# Altium footprint library MF_MiscLib.PcbLib: 108 footprints (part 2 of 7)
Each footprint in its own frame and in the unit in brackets; x right, y up, seen from the top. Pads: shape width x height; smd on the part's side, far side on the other; paste and mask are expansions set on the pad; w line width, h text height; cw(c..) or ccw(c..) is an arc to the next point about the centre after c.
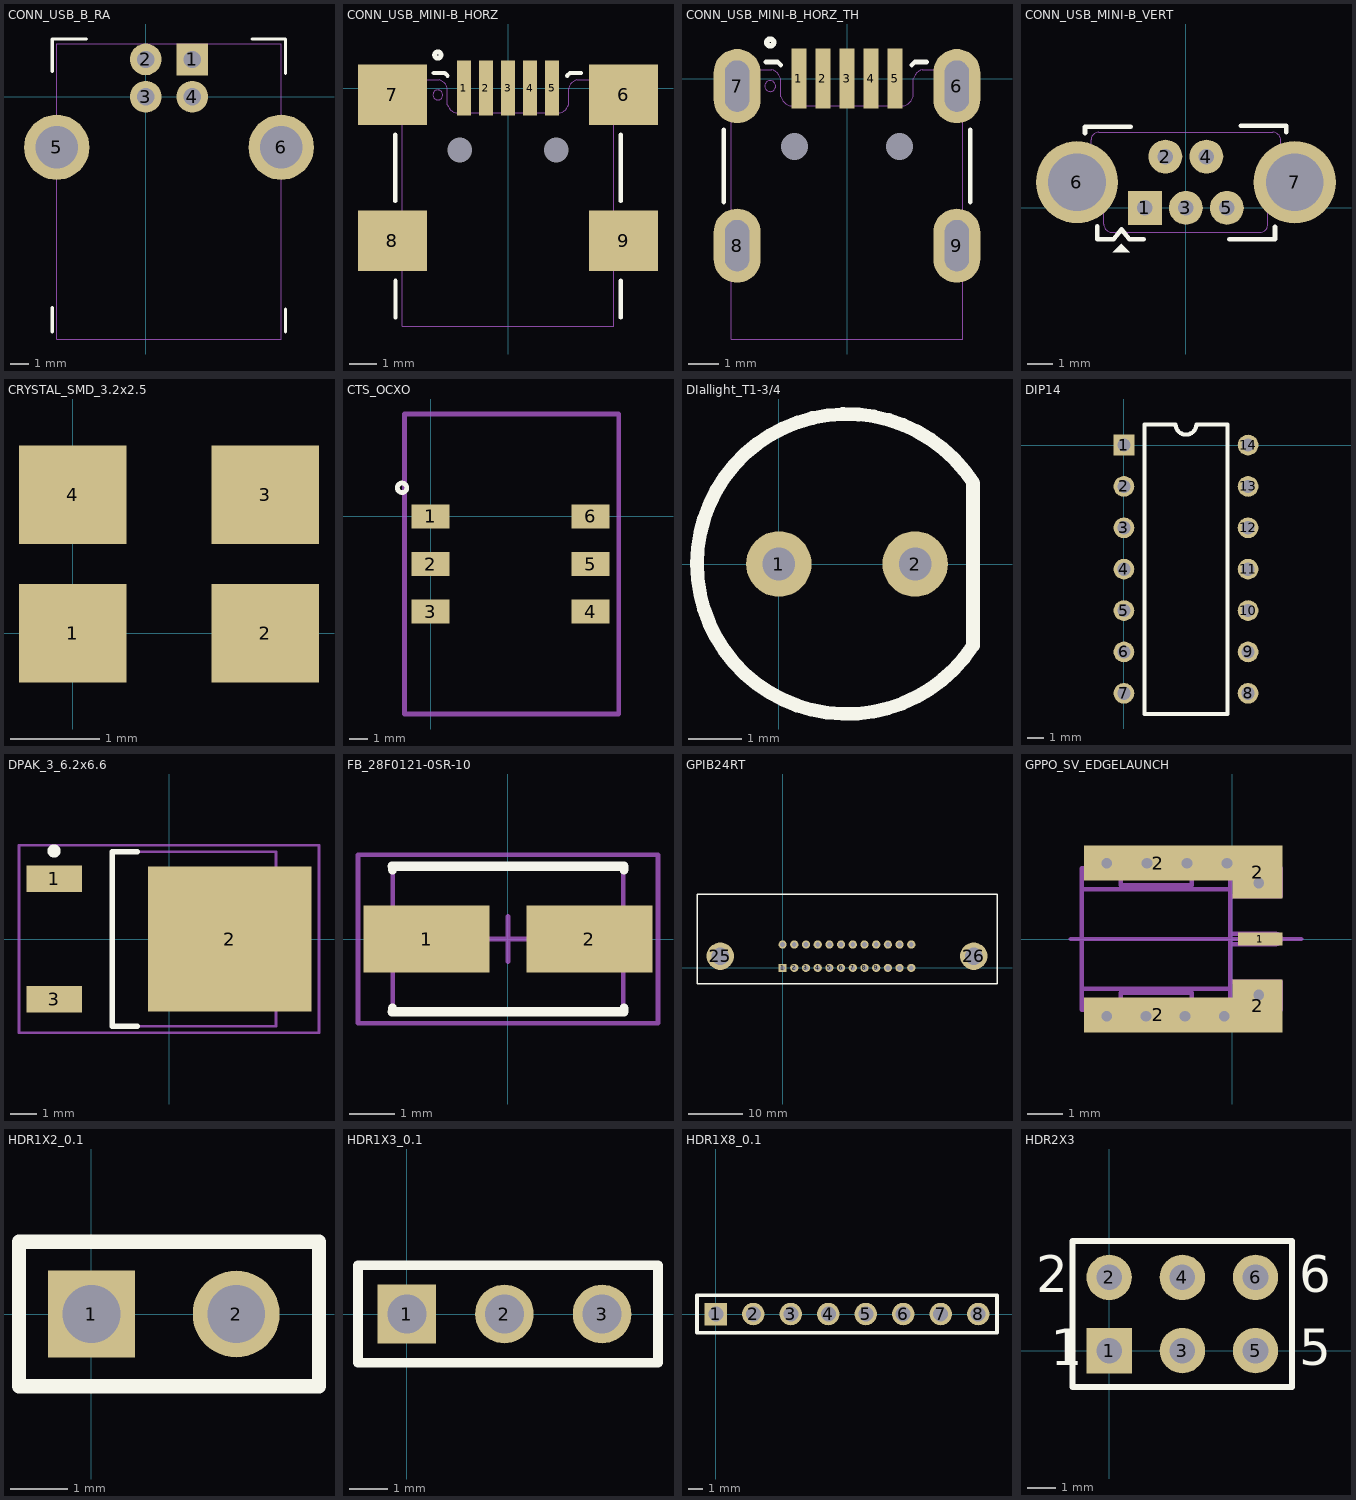
[diagram p1: the footprints below, top view; thin cyan lines are the x and y axes]

## CONN_USB_B_RA [mm]
pads (6):
  rect 1.7x1.7 / inner round 1.7 / far side rect 1.7x1.7 hole 0.92: 1(2.5,2)
  round 1.7 hole 0.92: 2(0,2) 3(0,0) 4(2.5,0)
  round 3.5 hole 2.3: 5(-4.77,-2.71) 6(7.27,-2.71)
Top Overlay:
  lines w0.178: -5.004,-12.598 -5.004,-11.321 ; -5.004,1.37 -5.004,3.097 -3.175,3.097 ; 5.715,3.097 7.493,3.097 7.493,1.243 ; 7.498,-12.598 7.498,-11.38
Mechanical 15:
  lines w0.025: -4.77,-12.99 -4.77,2.85 7.27,2.85 7.27,-12.99 -4.77,-12.99

## CONN_USB_MINI-B_HORZ [mm]
pads (11):
  rect 0.5x2 smd: 1(-1.6,0) 2(-0.8,0) 3(0,0) 4(0.8,0) 5(1.6,0)
  rect 2.5x2.2 smd: 6(4.2,-0.25) 7(-4.2,-0.25) 8(-4.2,-5.55) 9(4.2,-5.55)
  round 0 hole 0.9 unplated: 10(1.75,-2.25) 11(-1.75,-2.25)
Top Overlay:
  circle w0.178: c-2.55,1.2 r0.114
  lines w0.152: -4.1,-4.1 -4.1,-1.694 ; -4.089,-8.331 -4.089,-7 ; -2.7,0.55 -2.3,0.55 -2.2,0.45 ; 2.15,0.45 2.25,0.55 2.65,0.55 ; 4.1,-8.331 4.1,-7 ; 4.1,-4.1 4.1,-1.694
Mechanical 15:
  circle w0.025: c-2.55,-0.25 r0.18
  lines w0.025: 4.4,-5.35 ccw(c4.492,-5.575) 4.4,-5.8 4.6,-5.8 cw(c4.575,-6) 4.6,-6.2 3.85,-6.2 3.85,-8.65 -3.85,-8.65 -3.85,-6.2 -4.6,-6.2 cw(c-4.6,-6) -4.6,-5.8 -4.4,-5.8 ccw(c-4.4,-5.575) -4.4,-5.35 -4.6,-5.35 cw(c-4.6,-5.15) -4.6,-4.95 -3.85,-4.95 -3.85,-0.9 -4.6,-0.9 cw(c-4.6,-0.7) -4.6,-0.5 -4.5,-0.5 ccw(c-4.5,-0.3) -4.5,-0.1 -4.6,-0.1 cw(c-4.6,0.1) -4.6,0.3 -2.5,0.3 cw(c-2.65,-0.15) -2.2,0 -2.2,-0.6 ccw(c-1.787,-0.487) -1.9,-0.9 1.9,-0.9 ccw(c1.787,-0.487) 2.2,-0.6 2.2,0 cw(c2.651,-0.151) 2.5,0.3 4.6,0.3 cw(c4.6,0.1) 4.6,-0.1 4.5,-0.1 ccw(c4.5,-0.3) 4.5,-0.5 4.6,-0.5 cw(c4.6,-0.7) 4.6,-0.9 3.85,-0.9 3.85,-4.9 4.6,-4.9 cw(c4.558,-5.125) 4.6,-5.35 4.4,-5.35

## CONN_USB_MINI-B_HORZ_TH [mm]
pads (11):
  rect 0.5x2 smd: 1(-1.6,0) 2(-0.8,0) 3(0,0) 4(0.8,0) 5(1.6,0)
  oval 1.562x2.462 hole 0.8 slot 1.7 at 90 deg: 6(3.65,-0.25) 7(-3.65,-0.25) 8(-3.65,-5.55) 9(3.65,-5.55)
  round 0 hole 0.9 unplated: 10(1.75,-2.25) 11(-1.75,-2.25)
Top Overlay:
  circle w0.178: c-2.55,1.2 r0.114
  lines w0.152: -4.1,-4.1 -4.1,-1.694 ; -2.7,0.55 -2.3,0.55 -2.2,0.45 ; 2.15,0.45 2.25,0.55 2.65,0.55 ; 4.1,-4.1 4.1,-1.694
Mechanical 15:
  circle w0.025: c-2.55,-0.25 r0.18
  lines w0.025: -3.85,-8.65 -3.85,0.292 -2.5,0.3 cw(c-2.65,-0.15) -2.2,0 -2.2,-0.6 ccw(c-1.787,-0.487) -1.9,-0.9 1.9,-0.9 ccw(c1.787,-0.487) 2.2,-0.6 2.2,0 cw(c2.651,-0.151) 2.5,0.3 3.85,0.292 3.85,-8.65 -3.85,-8.65

## CONN_USB_MINI-B_VERT [mm]
pads (7):
  rect 1.321x1.321 hole 0.6: 1(-1.6,0)
  round 1.321 hole 0.6: 2(-0.8,2) 3(0,0) 4(0.8,2) 5(1.6,0)
  round 3.2 hole 2.25: 6(-4.25,1)
  round 3.22 hole 2.25: 7(4.25,1)
Top Overlay:
  region: -2.515,-1.397 -2.845,-1.727 -2.184,-1.727
  lines w0.178: -3.937,2.921 -3.937,3.173 -2.159,3.173 ; -3.454,-0.711 -3.454,-1.217 -2.819,-1.217 -2.514,-0.837 -2.21,-1.217 -1.651,-1.217 ; 1.702,-1.217 3.48,-1.217 3.48,-0.737 ; 2.134,3.198 3.912,3.198 3.912,2.946
Mechanical 15:
  lines w0.025: -3.7,2.1 -4.8,2 -4.8,0.03 -3.2,-0.102 ; 3.2,-0.152 4.8,0.03 4.8,2 3.7,2.1 ; -3.7,1.552 ccw(c-3.4,1.552) -3.638,1.369 -3.262,0.881 cw(c-3.5,0.698) -3.2,0.698 -3.2,-0.65 ccw(c-2.9,-0.65) -2.9,-0.95 2.9,-0.95 ccw(c2.9,-0.65) 3.2,-0.65 3.2,0.698 cw(c3.5,0.698) 3.262,0.881 3.638,1.369 ccw(c3.4,1.552) 3.7,1.552 3.7,2.65 ccw(c3.4,2.65) 3.4,2.95 -3.4,2.95 ccw(c-3.4,2.65) -3.7,2.65 -3.7,1.552
3D body: height 9.4, standoff -2.6, extent -5.059,-1.006 5.137,2.954

## CRYSTAL_SMD_3.2x2.5 [mm] "CTS Model 403 Crystal 3.2mm x 2.5mm"
height 0.8
pads (4):
  rect 1.2x1.1 smd: 1(0,0) 2(2.15,0) 3(2.15,1.55) 4(0,1.55)
3D body: height 0.8, standoff 0, extent -0.528,-0.482 2.672,2.018

## CTS_OCXO [mil]
pads (6):
  rect 80x50 smd: 1(0,0) 2(0,-100) 3(0,-200) 4(336,-200) 5(336,-100) 6(336,0)
Top Overlay:
  circle w10: c-60,60 r10
Mechanical 15:
  lines w10: -55,-415 -55,215 395,215 395,-415 390,-415 -55,-415
3D body: height 292.13, standoff 0, extent -28.75,-395 358.75,190

## DIallight_T1-3/4 [mil] "Diallight T1-3/4 Thru-hole LED"
height 400
pads (2):
  round 48 hole 24: 1(0,0) 2(100,0)
Top Overlay:
  lines w10: 142.37,59.1 142.37,-59.73 cw(c50,0) 142.66,59.29

## DIP14 [mil]
pads (14):
  rect 50x50 hole 32: 1(0,0)
  round 50 hole 32: 2(0,-100) 3(0,-200) 4(0,-300) 5(0,-400) 6(0,-500) 7(0,-600) 8(300,-600) 9(300,-500) 10(300,-400) 11(300,-300) 12(300,-200) 13(300,-100) 14(300,0)
Top Overlay:
  lines w10: 50,-650 50,50 125,50 ccw(c150,50) 175,50 250,50 250,-650 50,-650

## DPAK_3_6.2x6.6 [mm] "D-PAK, 3-Pads, Body 6.2x6.6mm (max), IPC Medium Density"
height 2.4
pads (3):
  rect 2.1x1 smd: 1(-4.35,2.28) 3(-4.35,-2.28)
  rect 6.2x5.5 smd: 2(2.3,0)
Top Overlay:
  circle w0.25: c-4.35,3.33 r0.125
  lines w0.2: -1.2,-3.3 -2.15,-3.3 -2.15,3.3 -1.2,3.3
Mechanical 13:
  lines w0.1: -2.15,-3.3 -2.15,3.3 4.05,3.3 4.05,-3.3 -2.15,-3.3
Mechanical 15:
  lines w0.1: -0.5,0 0.5,0 ; 0,-0.5 0,0.5 ; -5.675,-3.55 -5.675,3.55 5.675,3.55 5.675,-3.55 -5.675,-3.55
3D body: height 2.4, standoff 0.9, extent -2.15,-3.3 4.05,3.3

## FB_28F0121-0SR-10 [mm] "Molded Inductor, 2-Leads, Body 4.5x3.1mm, IPC Medium Density"
height 3.05
pads (2):
  rect 2.77x1.47 smd: 1(-1.79,0) 2(1.79,0)
Top Overlay:
  lines w0.2: -2.55,-1.6 2.55,-1.6 2.55,-1.524 ; -2.55,1.6 2.55,1.6 2.55,1.524 ; -2.54,-1.566 -2.54,-1.524 ; -2.54,1.524 -2.54,1.566
Mechanical 13:
  lines w0.1: -2.54,-1.565 -2.54,1.565 2.54,1.565 2.54,-1.565 -2.54,-1.565
Mechanical 15:
  lines w0.1: -0.5,0 0.5,0 ; 0,-0.5 0,0.5 ; -3.3,-1.85 -3.3,1.85 3.3,1.85 3.3,-1.85 -3.3,-1.85
3D body: height 3.05, standoff 0, extent -2.54,-1.565 2.54,1.565

## GPIB24RT [mil]
pads (26):
  rect 60x60 hole 35: 1(0,0)
  round 60 hole 35: 2(85,0) 3(170,0) 4(255,0) 5(340,0) 6(425,0) 7(510,0) 8(595,0) 9(680,0) 10(765,0) 11(850,0) 12(935,0) 13(0,170) 14(85,170) 15(170,170) 16(255,170) 17(340,170) 18(425,170) 19(510,170) 20(595,170) 21(680,170) 22(765,170) 23(850,170) 24(935,170)
  round 200 hole 125: 25(-453,85) 26(1389,85)
Top Overlay:
  lines w10: -622,-115 1558,-115 1558,535 -622,535 -622,-115
3D body: height 600.6, standoff -207.98, extent -625.89,-89.89 1549.11,868.11

## GPPO_SV_EDGELAUNCH [mm]
pads (5):
  rect 1.26x0.381 smd: 1(0.79,0)
  rect 4.19x0.985 all layers, no hole: 2(-2.095,-2.143) 2(-2.095,2.143)
  rect 1.42x1.49 all layers, no hole: 2(0.71,-1.89) 2(0.71,1.89)
via -2.417,2.141 diameter 0.61 hole 0.305
via -3.55,2.141 diameter 0.61 hole 0.305
via -1.285,2.141 diameter 0.61 hole 0.305
via -0.152,2.141 diameter 0.61 hole 0.305
via -3.55,-2.184 diameter 0.61 hole 0.305
via -2.445,-2.184 diameter 0.61 hole 0.305
via -1.34,-2.184 diameter 0.61 hole 0.305
via -0.235,-2.184 diameter 0.61 hole 0.305
via 0.745,1.579 diameter 0.61 hole 0.305
via 0.745,-1.579 diameter 0.61 hole 0.305
Mechanical 2:
  lines w0.127: -4.253,-1.525 -4.253,1.525 ; -4.253,-1.41 -0.063,-1.41 ; -4.253,1.41 -0.063,1.41 ; -0.063,-1.525 -0.063,1.525 ; -0.063,-0.15 1.207,-0.15 ccw(c1.207,0) 1.207,0.15 -0.063,0.15 ; -0.063,-2 -0.063,-1.21 1.357,-1.21 1.357,-2 -0.063,-2 ; -0.063,-2 -1.153,-2 -1.153,-1.525 -3.163,-1.525 -3.163,-2 -4.253,-2 -4.253,2 -3.163,2 -3.163,1.525 -1.153,1.525 -1.153,2 -0.063,2 ; -0.063,-2 -0.063,2 ; -0.063,2 -0.063,1.21 1.357,1.21 1.357,2 -0.063,2
Mechanical 3:
  lines w0.127: -4.563,0 1.937,0
  text "GPPO" at -2.966,0.416 h0.5

## HDR1X2_0.1 [mil] "HEADER 2POS 1ROW .100 STR"
height 236.22
pads (2):
  rect 60x60 hole 40: 1(0,0)
  round 60 hole 40: 2(100,0)
Top Overlay:
  lines w10: -50,-50 -50,50 157.17,50 157.17,-50 -50,-50

## HDR1X3_0.1 [mil] "HEADER 3POS 1ROW .100 STR"
height 236.22
pads (3):
  rect 60x60 hole 40: 1(0,0)
  round 60 hole 40: 2(100,0) 3(200,0)
Top Overlay:
  lines w10: -50,-50 257.32,-50 257.32,50 -50,50 -50,-50

## HDR1X8_0.1 [mil] "HEADER 8POS 1ROW .100 STR"
height 236.22
pads (8):
  rect 60x60 hole 40: 1(0,0)
  round 60 hole 40: 2(100,0) 3(200,0) 4(300,0) 5(400,0) 6(500,0) 7(600,0) 8(700,0)
Top Overlay:
  lines w10: -50,-50 -50,50 750,50 750,-50 -50,-50

## HDR2X3 [mil]
pads (6):
  rect 62x62 hole 35: 1(0,0)
  round 62 hole 35: 2(0,100) 3(100,0) 4(100,100) 5(200,0) 6(200,100)
Top Overlay:
  lines w8: -50,-50 -50,150 250,150 250,-50 -50,-50
  text "5" at 260,-20 h50
  text "2" at -100,80 h50
  text "1" at -80,-20 h50
  text "6" at 260,80 h50